# Altium footprint library hot_board.PcbLib: 12 footprints
Each footprint in its own frame and in the unit in brackets; x right, y up, seen from the top. Pads: shape width x height; smd on the part's side, far side on the other; paste and mask are expansions set on the pad; w line width, h text height; cw(c..) or ccw(c..) is an arc to the next point about the centre after c.
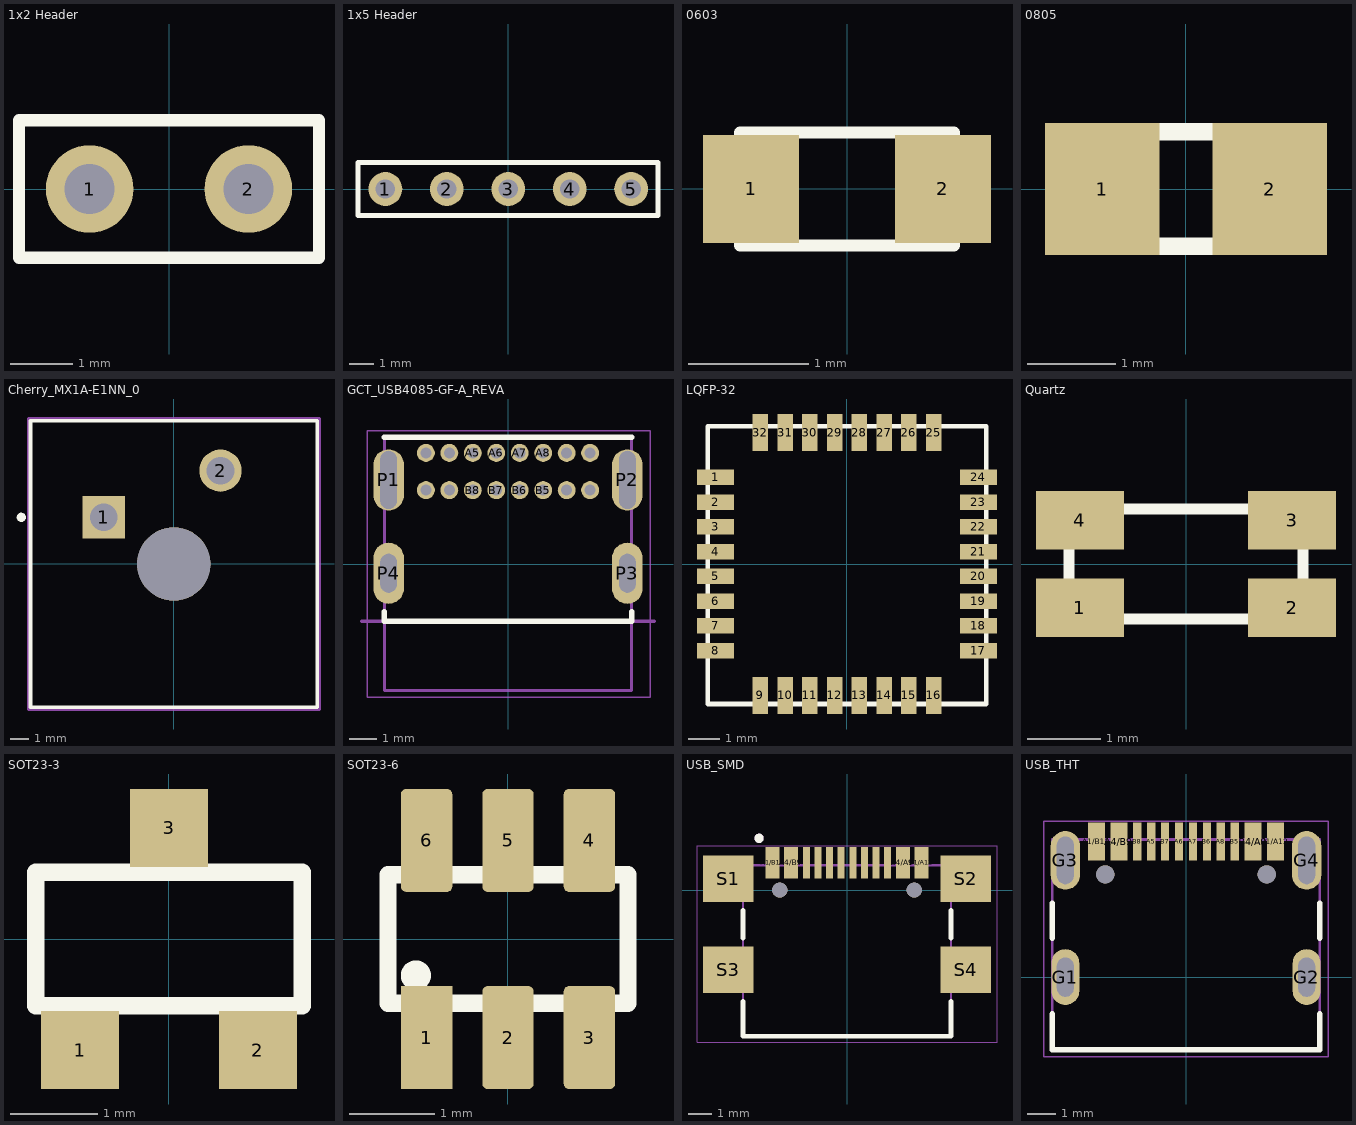
[diagram p0: the footprints below, top view; thin cyan lines are the x and y axes]

## 1x2 Header [mm] "SIP; 2 Leads; Body 4.8 x 2.2 x 10.6 mm (typ); Pitch 2.54 mm"
height 10.6
pads (2):
  round 1.4 hole 0.8: 1(-1.27,0) 2(1.27,0)
Top Overlay:
  lines w0.2: -2.4,-1.1 -2.4,1.1 2.4,1.1 2.4,-1.1 -2.4,-1.1

## 1x5 Header [mm] "SIP; 2 Leads; Body 4.8 x 2.2 x 10.6 mm (typ); Pitch 2.54 mm"
height 10.6
pads (5):
  round 1.4 hole 0.8: 1(-5.08,0) 2(-2.54,0) 3(0,0) 4(2.54,0) 5(5.08,0)
Top Overlay:
  lines w0.2: -6.21,-1.1 -6.21,1.1 6.19,1.1 6.19,-1.1 -6.21,-1.1

## 0603 [mm]
height 0.38
pads (2):
  rect 0.8x0.9 smd: 1(-0.8,0) 2(0.8,0)
Top Overlay:
  lines w0.1: -0.89,-0.47 -0.89,0.47 0.89,0.47 0.89,-0.47 -0.89,-0.47
3D body: height 0.38, standoff 0, extent -0.89,-0.47 0.89,0.47

## 0805 [mm]
pads (2):
  rect 1.3x1.5 smd: 1(-0.95,0) 2(0.95,0)
Top Overlay:
  lines w0.2: 1,0.625 1,-0.65 -1,-0.65 -1,0.65 1,0.65
3D body "RESISTOR 0805.step": height 0.43, standoff -0.03, extent -1.1,-0.6 0.9,0.66

## Cherry_MX1A-E1NN_0 [mil]
pads (3):
  rect 90.5x90.5 hole 59 paste-39370.1 mask+0: 1(-150,100)
  round 90.5 hole 59 paste-39370.1 mask+0: 2(100,200)
  round 157 hole 157 unplated paste-39370.1 mask+0: ""(0,0)
Top Overlay:
  circle w9.84: c-326.77,100 r4.92
  lines w7.87: -307.09,-307.09 307.09,-307.09 307.09,307.09 -307.09,307.09 -307.09,-307.09
Mechanical 10:
  lines w7.87: -311.02,-311.02 311.02,-311.02 311.02,311.02 -311.02,311.02 -311.02,-311.02
  text ".Designator" at 0,0 h39.37
Mechanical 12:
  lines w5.91: -307.09,-307.09 307.09,-307.09 307.09,307.09 -307.09,307.09 -307.09,-307.09
Mechanical 15:
  lines w3.94: -19.68,0 19.68,0 ; 0,-19.68 0,19.68
  lines w7.87: -311.02,-311.02 311.02,-311.02 311.02,311.02 -311.02,311.02 -311.02,-311.02
3D body "3dmodel.step": height 597.84, standoff -130.5, extent -307.09,-307.48 307.09,306.7

## GCT_USB4085-GF-A_REVA [mm]
pads (20):
  round 0.65 hole 0.4: A1/B12(-2.975,2.675) A1/B12(-2.975,4.025) A4/B9(-2.125,2.675) A4/B9(-2.125,4.025) A5(-1.275,4.025) A6(-0.425,4.025) A7(0.425,4.025) A8(1.275,4.025) B1/A12(2.975,2.675) B1/A12(2.975,4.025) B4/A9(2.125,2.675) B4/A9(2.125,4.025) B5(1.275,2.675) B6(0.425,2.675) B7(-0.425,2.675) B8(-1.275,2.675)
  oval 1.108x2.216 hole 0.6 slot 2.1 at 90 deg: P1(-4.325,3.045) P2(4.325,3.045)
  oval 1.108x2.216 hole 0.6 slot 1.4 at 90 deg: P3(4.325,-0.335) P4(-4.325,-0.335)
Top Overlay:
  lines w0.2: -4.475,-1.725 -4.475,-2.075 4.475,-2.075 4.475,-1.725 ; -4.475,4.585 4.475,4.585
Mechanical 13:
  lines w0.1: -4.475,-4.585 4.475,-4.585 4.475,4.585 -4.475,4.585 -4.475,-4.585
  lines w0.127: -5.3,-2.075 5.3,-2.075
Mechanical 15:
  lines w0.05: -5.1,-4.825 5.15,-4.825 5.15,4.825 -5.1,4.825 -5.1,-4.825
3D body "USB4085-GF-A--3DModel-STEP-56544.STEP": height 3.46, standoff -2.1, extent -4.475,-4.585 4.475,4.585

## LQFP-32 [mm]
pads (32):
  rect 1.2x0.5 smd: 1(-4.25,2.8) 2(-4.25,2) 3(-4.25,1.2) 4(-4.25,0.4) 5(-4.25,-0.4) 6(-4.25,-1.2) 7(-4.25,-2) 8(-4.25,-2.8) 17(4.25,-2.8) 18(4.25,-2) 19(4.25,-1.2) 20(4.25,-0.4) 21(4.25,0.4) 22(4.25,1.2) 23(4.25,2) 24(4.25,2.8)
  rect 0.5x1.2 smd: 9(-2.8,-4.25) 10(-2,-4.25) 11(-1.2,-4.25) 12(-0.4,-4.25) 13(0.4,-4.25) 14(1.2,-4.25) 15(2,-4.25) 16(2.8,-4.25) 25(2.8,4.25) 26(2,4.25) 27(1.2,4.25) 28(0.4,4.25) 29(-0.4,4.25) 30(-1.2,4.25) 31(-2,4.25) 32(-2.8,4.25)
Top Overlay:
  lines w0.15: -4.5,-4.525 4.5,-4.525 4.5,4.45 -4.5,4.45 -4.5,-4.525
3D body "LQFP32.STEP": height 1.63, standoff -0.09, extent -4.5,-4.525 4.5,4.475

## Quartz [mm]
pads (4):
  rect 1.2x0.8 smd: 1(-1.45,-0.6) 2(1.45,-0.6) 3(1.45,0.6) 4(-1.45,0.6)
Top Overlay:
  lines w0.15: -1.6,-0.75 -1.6,0.75 1.6,0.75 1.6,-0.75 -1.6,-0.75
3D body: height 1, standoff 0, extent -1.575,-0.75 1.625,0.75

## SOT23-3 [mil] "SOT-23; 3 Leads; Body 3.0 x 2.5 mm, inc. leads (LxW max)"
height 43.31
pads (3):
  rect 35x35 smd: 1(-40,-50) 2(40,-50) 3(0,50)
Top Overlay:
  lines w8: -60,-30 60,-30 60,30 -60,30 -60,-30

## SOT23-6 [mm] "SOT-23; 3 Leads; Body 3.0 x 2.5 mm, inc. leads (LxW max)"
height 1.1
pads (6):
  rect 0.6x1.2 smd mask+0.05: 1(-0.95,-1.15)
  rrect20% 0.6x1.2 smd mask+0.05: 2(0,-1.15) 3(0.95,-1.15) 4(0.95,1.15) 5(0,1.15) 6(-0.95,1.15)
Top Overlay:
  circle w0.25: c-1.075,-0.425 r0.05
  lines w0.2: -1.4,-0.75 1.4,-0.75 1.4,0.75 -1.4,0.75 -1.4,-0.75
3D body "SOT-23-6.step": height 1.09, standoff 0, extent -1.397,-1.215 1.397,1.211

## USB_SMD [mm]
pads (18):
  rect 0.6x1.35 smd: A1/B12(-3.2,1.175) A4/B9(-2.4,1.175) B1/A12(3.2,1.175) B4/A9(2.4,1.175)
  rect 0.3x1.35 smd: A5(-1.25,1.175) A6(-0.25,1.175) A7(0.25,1.175) A8(1.25,1.175) B5(1.75,1.175) B6(0.75,1.175) B7(-0.75,1.175) B8(-1.75,1.175)
  rect 2.18x2 smd: S1(-5.11,0.5) S2(5.11,0.5) S3(-5.11,-3.43) S4(5.11,-3.43)
  round 0.65 hole 0.65 unplated: ""(-2.89,0) ""(2.89,0)
Top Overlay:
  circle w0.2: c-3.78,2.23 r0.1
  lines w0.2: -4.47,-4.79 -4.47,-6.28 4.47,-6.28 4.47,-4.79 ; -4.47,-2.07 -4.47,-0.86 ; 4.47,-2.07 4.47,-0.86
Mechanical 13:
  circle w0.2: c-3.78,2.23 r0.1
  lines w0.1: -4.47,-6.28 -4.47,1.07 4.47,1.07 4.47,-6.28 -4.47,-6.28
Mechanical 15:
  lines w0.05: -6.45,-6.53 6.45,-6.53 6.45,1.9 -6.45,1.9 -6.45,-6.53
3D body "usb_smd.STEP": height 3.23, standoff -0.73, extent -5.65,-6.255 5.65,1.425

## USB_THT [mm]
pads (18):
  rect 0.6x1.35 smd: A1/B12(-3.2,4.855) A4/B9(-2.4,4.855) B1/A12(3.2,4.855) B4/A9(2.4,4.855)
  rect 0.3x1.35 smd: A5(-1.25,4.855) A6(-0.25,4.855) A7(0.25,4.855) A8(1.25,4.855) B5(1.75,4.855) B6(0.75,4.855) B7(-0.75,4.855) B8(-1.75,4.855)
  oval 1x2 hole 0.6 slot 1.4 at 90 deg: G1(-4.32,0) G2(4.32,0)
  oval 1.05x2.1 hole 0.6 slot 1.7 at 90 deg: G3(-4.32,4.18) G4(4.32,4.18)
  round 0.65 hole 0.65 unplated: ""(-2.89,3.68) ""(2.89,3.68)
Top Overlay:
  lines w0.2: -4.79,-1.32 -4.79,-2.6 4.79,-2.6 4.79,-1.32 ; -4.79,1.4 -4.79,2.65 ; 4.79,1.4 4.79,2.65
Mechanical 13:
  lines w0.1: -4.79,-2.6 4.79,-2.6 4.79,4.93 -4.79,4.93 -4.79,-2.6
Mechanical 15:
  lines w0.05: -5.1,-2.85 -5.1,5.58 5.1,5.58 5.1,-2.85 -5.1,-2.85
3D body "USB4105-GF-A--3DModel-STEP-46669.STEP": height 3.31, standoff -0.85, extent -4.79,-2.555 4.79,5.155